# EAGLE library part 691412120015 (library Terminal_Blocks_Connectors_rev15e)
WR-TBL Serie 412 - 3.5mm Screwless 45° Entry Grey - 1.5mm2 Wires, 15 Pins
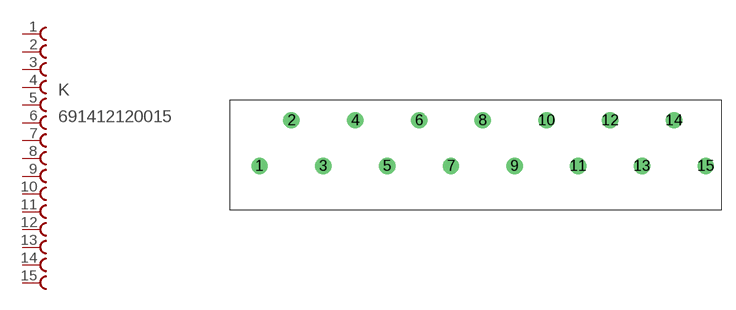
[diagram p222: symbol with the pads of 691412120015; footprint 691412120015]

Designator prefix K

## 691412120015  [691412120015]
1  1  pas
2  2  pas
3  3  pas
4  4  pas
5  5  pas
6  6  pas
7  7  pas
8  8  pas
9  9  pas
10  10  pas
11  11  pas
12  12  pas
13  13  pas
14  14  pas
15  15  pas

## Footprint 691412120015 (pad centres in mm)
WR-TBL Serie 412 - 3.5mm Screwless 45° Entry Grey - 1.5mm2 Wires, 15 Pins
drill 1.2: 1 -49.1,0; 2 -45.6,5; 3 -42.1,0; 4 -38.6,5; 5 -35.1,0; 6 -31.6,5; 7 -28.1,0; 8 -24.6,5; 9 -21.1,0; 10 -17.6,5; 11 -14.13,0; 12 -10.63,5; 13 -7.13,0; 14 -3.63,5; 15 -0.13,0